# Altium footprint library R_1206_3216.PcbLib: 1 footprints
Each footprint in its own frame and in the unit in brackets; x right, y up, seen from the top. Pads: shape width x height; smd on the part's side, far side on the other; paste and mask are expansions set on the pad; w line width, h text height; cw(c..) or ccw(c..) is an arc to the next point about the centre after c.
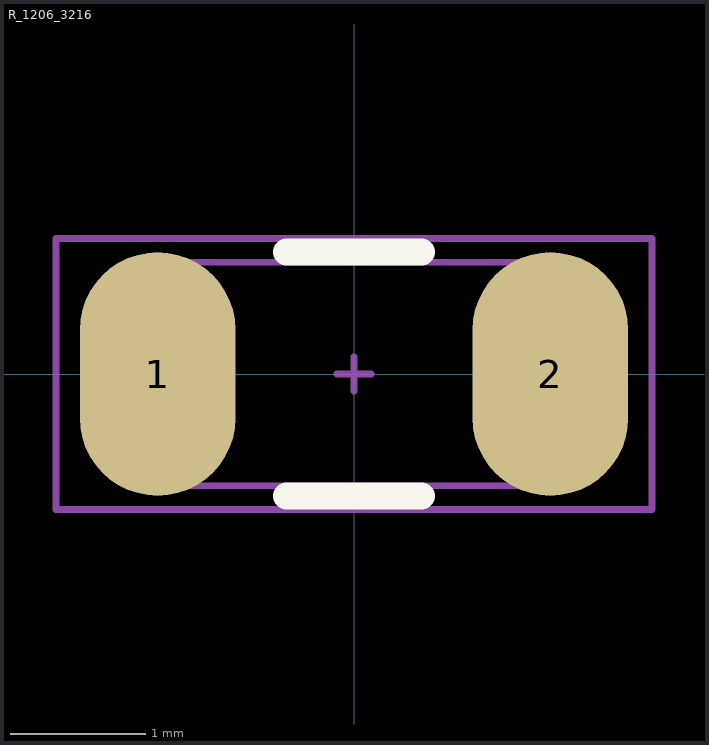
[diagram p0: the footprint, top view; thin cyan lines are the x and y axes]

## R_1206_3216 [mm]
pads (2):
  oval 1.15x1.8 smd mask+0.05: 1(-1.45,0) 2(1.45,0)
Top Overlay:
  lines w0.2: -0.5,-0.9 0.5,-0.9 ; -0.5,0.9 0.5,0.9
Assembly Top:
  lines w0.05: -1.625,-0.825 1.625,-0.825 1.625,0.825 -1.625,0.825 -1.625,-0.825
Courtyard Top:
  lines w0.05: -0.127,0 0.127,0 ; 0,-0.127 0,0.127 ; -2.2,-1 2.2,-1 2.2,1 -2.2,1 -2.2,-1
3D body "RESC3216X65N.stp": height 0.65, standoff 0, extent -1.675,-0.875 1.675,0.875